# EAGLE library part STM32L072CZE6TR (library circuit_tree)
IC
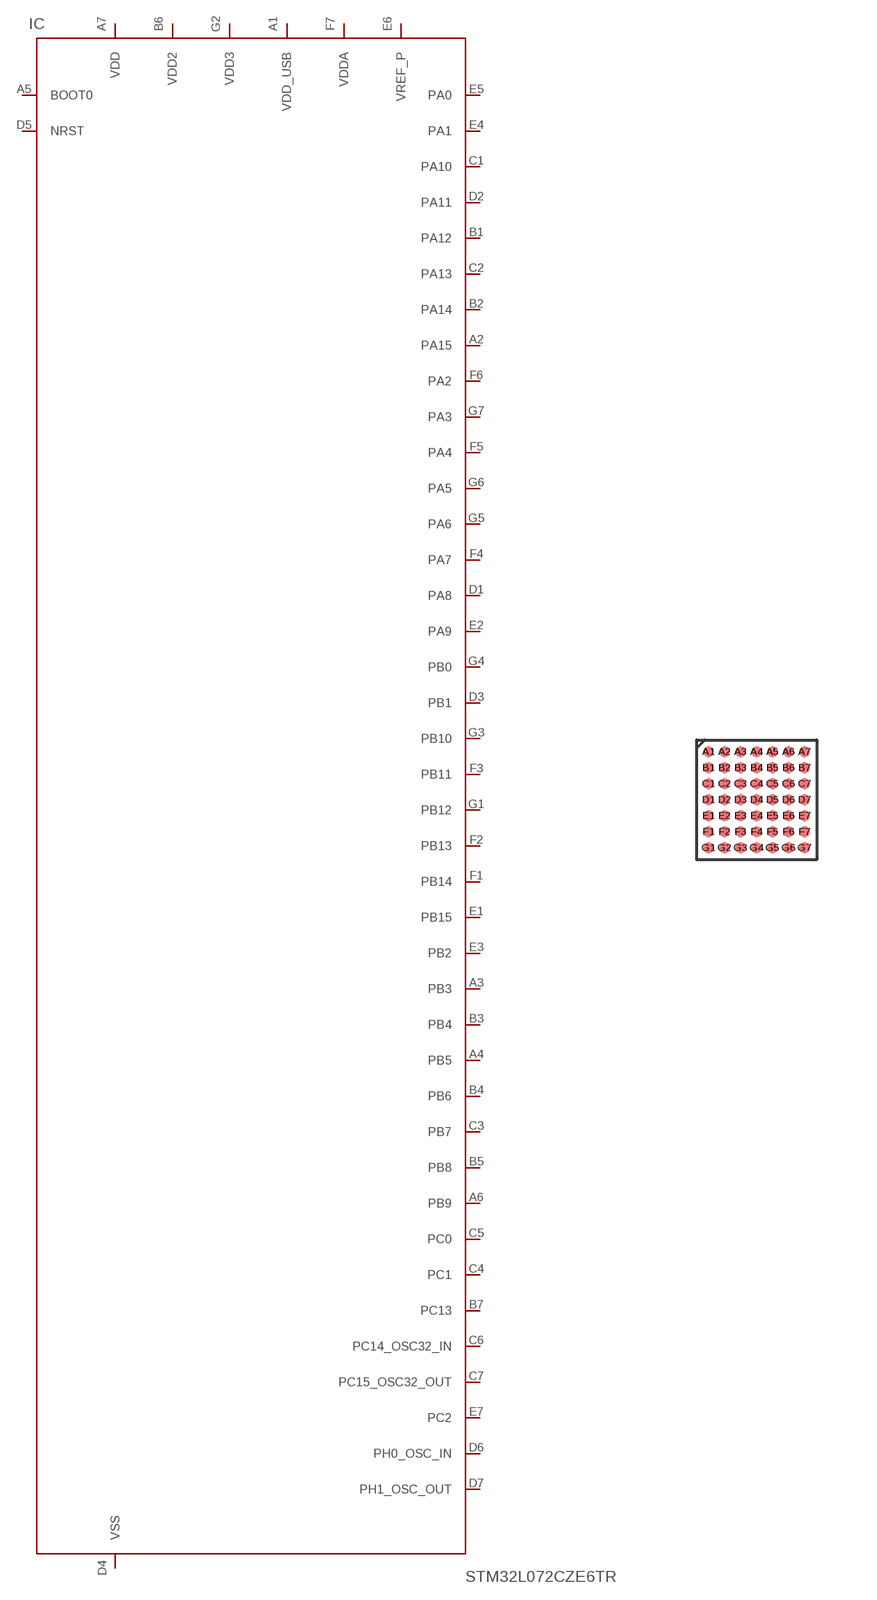
[diagram p1: symbol with the pads of EWLCSP49; footprint EWLCSP49]

Designator prefix IC

## STM32L072CZE6TR  [EWLCSP49]
A1  VDD_USB  pas
A2  PA15  pas
A3  PB3  pas
A4  PB5  pas
A5  BOOT0  pas
A6  PB9  pas
A7  VDD  pas
B1  PA12  pas
B2  PA14  pas
B3  PB4  pas
B4  PB6  pas
B5  PB8  pas
B6  VDD2  pas
B7  PC13  pas
C1  PA10  pas
C2  PA13  pas
C3  PB7  pas
C4  PC1  pas
C5  PC0  pas
C6  PC14_OSC32_IN  pas
C7  PC15_OSC32_OUT  pas
D1  PA8  pas
D2  PA11  pas
D3  PB1  pas
D4  VSS  pas
D5  NRST  pas
D6  PH0_OSC_IN  pas
D7  PH1_OSC_OUT  pas
E1  PB15  pas
E2  PA9  pas
E3  PB2  pas
E4  PA1  pas
E5  PA0  pas
E6  VREF_P  pas
E7  PC2  pas
F1  PB14  pas
F2  PB13  pas
F3  PB11  pas
F4  PA7  pas
F5  PA4  pas
F6  PA2  pas
F7  VDDA  pas
G1  PB12  pas
G2  VDD3  pas
G3  PB10  pas
G4  PB0  pas
G5  PA6  pas
G6  PA5  pas
G7  PA3  pas

## Footprint EWLCSP49 (pad centres in mm)
smd 0.28 x 0.28: A1 0,0; A2 0.4,0; A3 0.8,0; A4 1.2,0; A5 1.6,0; A6 2,0; A7 2.4,0; B1 0,-0.4; B2 0.4,-0.4; B3 0.8,-0.4; B4 1.2,-0.4; B5 1.6,-0.4; B6 2,-0.4; B7 2.4,-0.4; C1 0,-0.8; C2 0.4,-0.8; C3 0.8,-0.8; C4 1.2,-0.8; C5 1.6,-0.8; C6 2,-0.8; C7 2.4,-0.8; D1 0,-1.2; D2 0.4,-1.2; D3 0.8,-1.2; D4 1.2,-1.2; D5 1.6,-1.2; D6 2,-1.2; D7 2.4,-1.2; E1 0,-1.6; E2 0.4,-1.6; E3 0.8,-1.6; E4 1.2,-1.6; E5 1.6,-1.6; E6 2,-1.6; E7 2.4,-1.6; F1 0,-2; F2 0.4,-2; F3 0.8,-2; F4 1.2,-2; F5 1.6,-2; F6 2,-2; F7 2.4,-2; G1 0,-2.4; G2 0.4,-2.4; G3 0.8,-2.4; G4 1.2,-2.4; G5 1.6,-2.4; G6 2,-2.4; G7 2.4,-2.4